# Altium schematic symbol library TRANS_1.SchLib: 1 symbol
Pins are listed as number, name and electrical type; pins without a type are passive.

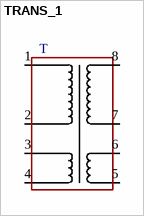
[diagram p0: symbol TRANS_1]

## TRANS_1
designator T
pins: 1 A, 2, 3 A, 4 A, 5 A, 6 A, 7 A, 8 A